# Altium footprint library WiFi-Vista_NW.PcbLib: 1 footprints
Each footprint in its own frame and in the unit in brackets; x right, y up, seen from the top. Pads: shape width x height; smd on the part's side, far side on the other; paste and mask are expansions set on the pad; w line width, h text height; cw(c..) or ccw(c..) is an arc to the next point about the centre after c.
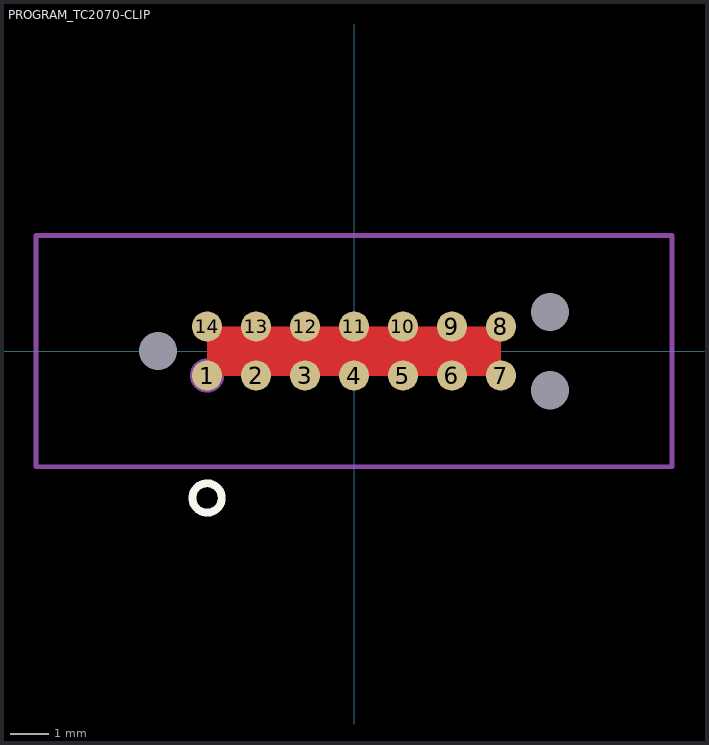
[diagram p0: the footprint, top view; thin cyan lines are the x and y axes]

## PROGRAM_TC2070-CLIP [mm]
pads (17):
  round 0 hole 0.99 unplated: 0(-5.08,0) 0(5.08,-1.016) 0(5.08,1.016)
  round 0.787 smd: 1(-3.81,-0.635) 2(-2.54,-0.635) 3(-1.27,-0.635) 4(0,-0.635) 5(1.27,-0.635) 6(2.54,-0.635) 7(3.81,-0.635) 8(3.81,0.635) 9(2.54,0.635) 10(1.27,0.635) 11(0,0.635) 12(-1.27,0.635) 13(-2.54,0.635) 14(-3.81,0.635)
Top Layer:
  pour cut-out: -3.81,0.635 3.81,0.635 3.81,-0.635 -3.81,-0.635
Top Overlay:
  circle w0.203: c-3.81,-3.81 r0.381
Mechanical 1:
  text "'.Designator'" at 0,0 h2.54
Mechanical 15:
  circle w0.127: c-3.81,-0.635 r0.381
  lines w0.127: -8.25,-3 -8.25,3 8.25,3 8.25,-3 -8.25,-3